# EAGLE library part 692122030100 (library WR-USB)
WR-USB Standard Connectors Characteristics Widely used Type-A and Type-B connectors, available in different orientation Various mount types: SMT, THT, THR Pin configuration: 4 pins for USB 2.0 / 9 pins for USB 3.x Durable and backward compatible with older USB versions UL, TID listing for USB standards Applications Office and desktop computing systems Industrial control and automation equipment Consumer electronics and peripherals Audio-visual and broadcast systems Details see: www.we-online.com/en/components/products/INPUT_OUTPUT_WR_USB_STANDARD Updated by Ella 2026-07-03 2026 (C) Würth Elektronik
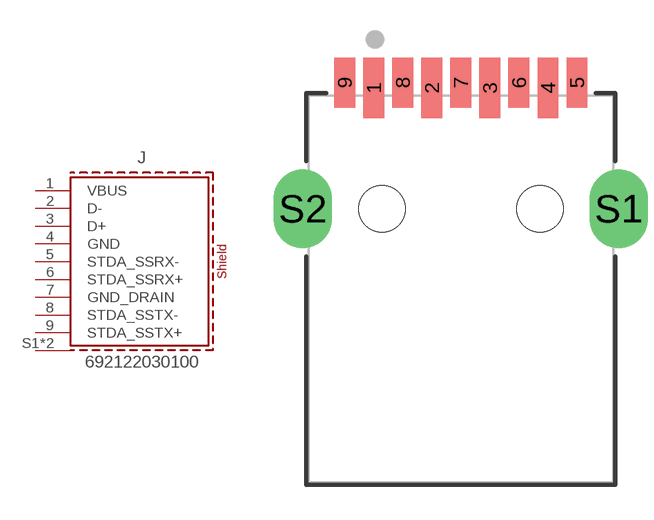
[diagram p21: symbol with the pads of 692122030100; footprint 692122030100]

Designator prefix J

## 692122030100 (APPLICATION: USB 3.0; DATASHEET: https://www.we-online.com/redexpert/spec/692122030100?ae; GERDER: Receptacle; INTERFACE-TYPE: Type A; IR: 1.8 A; MOUNT: SMT; PACKAGING: Tape and Reel; PART-NUMBER: 692122030100; PCB-THICKNESS: 1.6 mm; PINS: 9pcs; TYPE: Horizontal; VALUE: 692122030100; WORKING-VOLTAGE: 30 V (AC))  [692122030100]
1  VBUS  pas
2  D-  pas
3  D+  pas
4  GND  pas
5  STDA_SSRX-  pas
6  STDA_SSRX+  pas
7  GND_DRAIN  pas
8  STDA_SSTX-  pas
9  STDA_SSTX+  pas
S1  SHIELD  pas
S2  SHIELD  pas

## Footprint 692122030100 (pad centres in mm)
WR-USB Standard Connectors USB 3.0, Type A, Horizontal SMT, 9Pins, PCB Thickness:1.6 mm
smd 0.9 x 2.6: 1 -3.75,8.67; 2 -1.25,8.67; 3 1.25,8.67; 4 3.75,8.67
smd 0.9 x 2.15: 5 5,8.895; 6 2.5,8.895; 7 0,8.895; 8 -2.5,8.895; 9 -5,8.895
drill 1.12 pad 2.52 slot 2 rotated 90: S1 6.8,3.45; S2 -6.8,3.45
hole 2 at -3.4,3.45
hole 2 at 3.4,3.45